# Altium footprint library RAMBo.PcbLib: 56 footprints (part 3 of 4)
Each footprint in its own frame and in the unit in brackets; x right, y up, seen from the top. Pads: shape width x height; smd on the part's side, far side on the other; paste and mask are expansions set on the pad; w line width, h text height; cw(c..) or ccw(c..) is an arc to the next point about the centre after c.
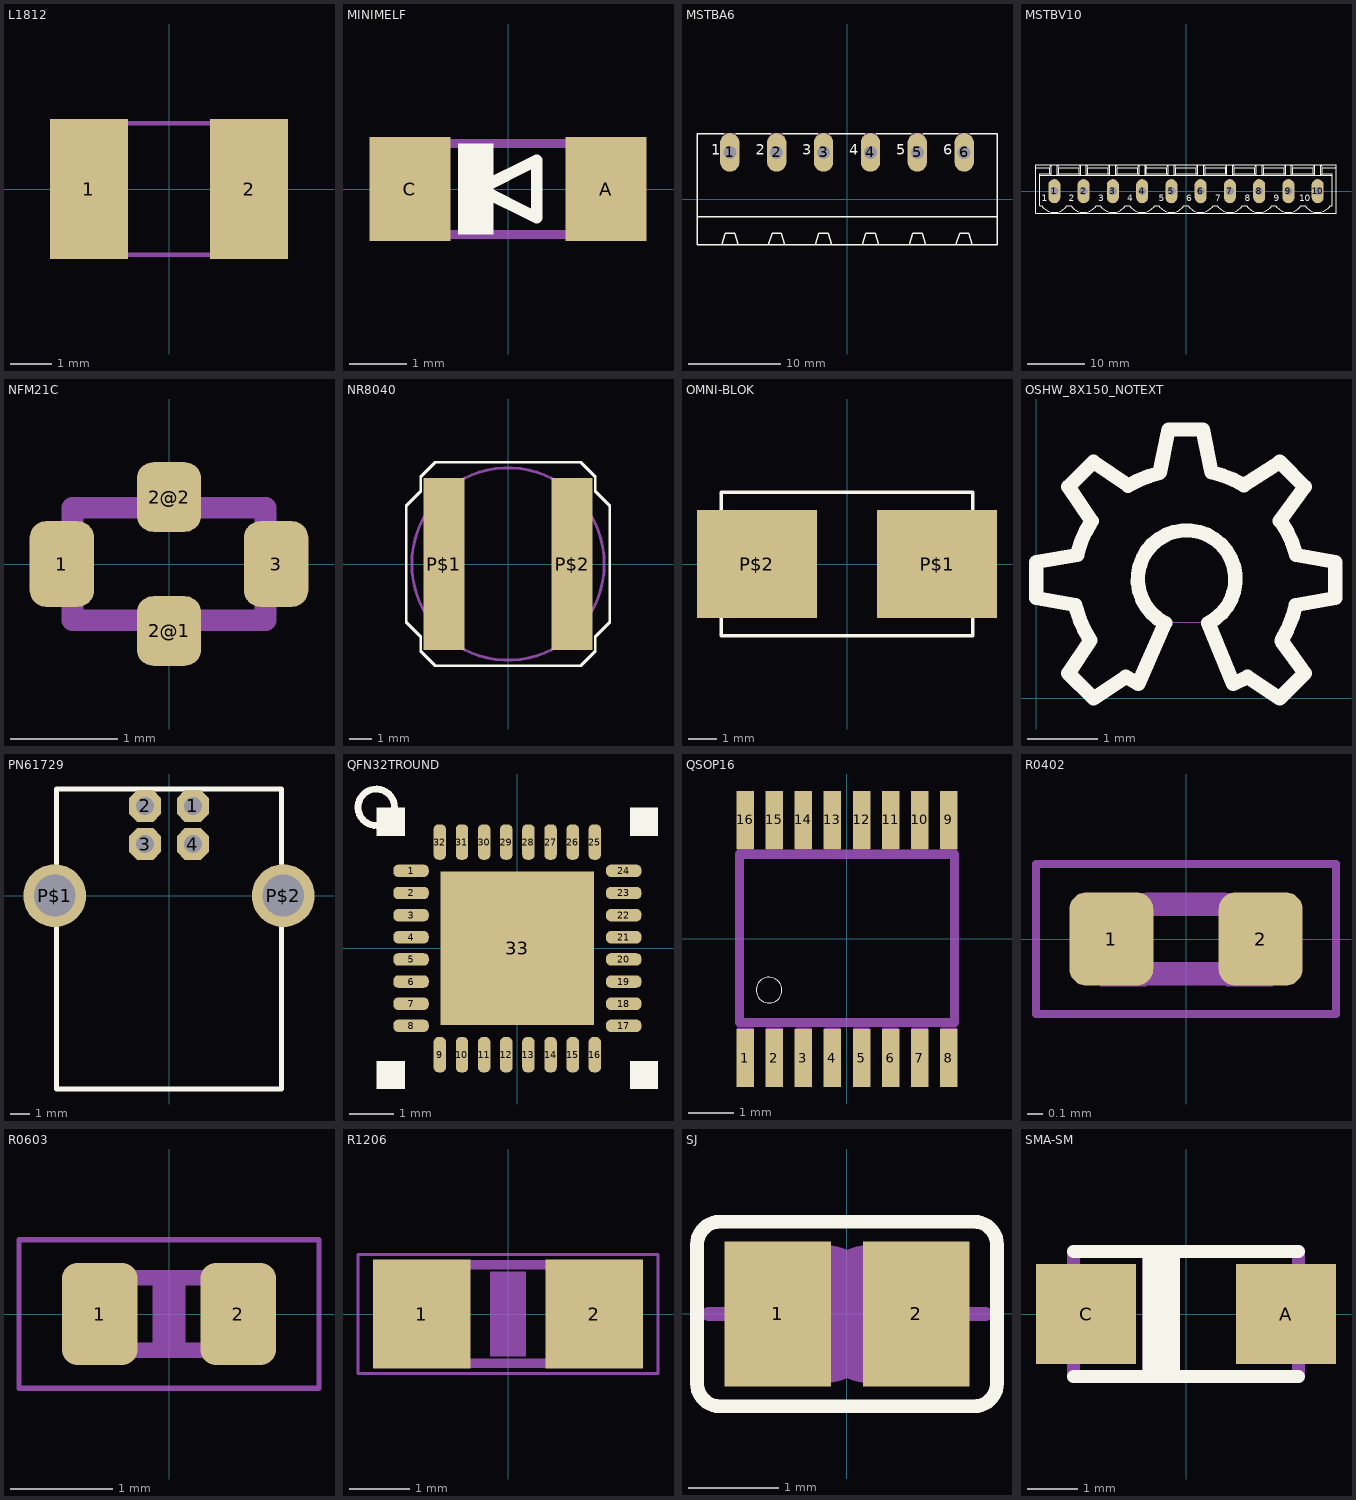
[diagram p2: the footprints below, top view; thin cyan lines are the x and y axes]

## L1812 [mil] "L1812"
pads (2):
  rect 74.8x133.86 smd: 1(-76.77,0) 2(76.77,0)
Mechanical 16:
  rectangle: 57,-65 94.4,64.92
  rectangle: -94,-65 -56.6,64.92
  lines w4: -58,63 58,63 ; -57,-63 58,-63

## MINIMELF [mil] "MINIMELF"
pads (2):
  rect 55.12x70.87 smd: A(66.93,0) C(-66.93,0)
Top Overlay:
  rectangle: -34,-31 -10,31
  lines w8: -19.69,0 19.69,-19.69 19.69,19.69 -19.69,0
Mechanical 16:
  rectangle: 51,-34 73,34
  rectangle: -73,-34 -51,34
  lines w6: -52,-31 52,-31 ; -52,31 52,31

## MSTBA6 [mil] "MSTBA6"
pads (6):
  oval 82.5x165 / inner round 82.5 / far side oval 82.5x165 hole 55: 1(-500,200) 2(-300,200) 3(-100,200) 4(100,200) 5(300,200) 6(500,200)
Top Overlay:
  lines w6: -525,280 -640,280 -640,-75 ; -475,280 -325,280 ; -275,280 -125,280 ; -75,280 75,280 ; 125,280 275,280 ; 325,280 475,280 ; 525,280 640,280 640,-75 ; -640,-75 -640,-195 -535,-195 ; -640,-75 640,-75 ; -535,-195 -465,-195 ; -535,-195 -520,-145 -480,-145 -465,-195 ; -465,-195 -335,-195 ; -335,-195 -265,-195 ; -335,-195 -320,-145 -280,-145 -265,-195 ; -265,-195 -135,-195 ; -135,-195 -120,-145 -80,-145 -65,-195 ; -135,-195 -65,-195 ; -65,-195 65,-195 ; 65,-195 80,-145 120,-145 135,-195 ; 65,-195 135,-195 ; 135,-195 265,-195 ; 265,-195 280,-145 320,-145 335,-195 ; 265,-195 335,-195 ; 335,-195 465,-195 ; 465,-195 480,-145 520,-145 535,-195 ; 465,-195 535,-195 ; 535,-195 640,-195 640,-75
  text "6" at 410,175 h77.5
  text "5" at 210,175 h77.5
  text "4" at 10,175 h77.5
  text "3" at -190,175 h77.5
  text "2" at -390,175 h77.5
  text "1" at -580,175 h77.5
Mechanical 16:
  lines w6: -525,280 -475,280 ; -325,280 -275,280 ; -125,280 -75,280 ; 75,280 125,280 ; 275,280 325,280 ; 475,280 525,280

## MSTBV10 [mil] "MSTBV10"
pads (10):
  oval 82.5x165 / inner round 82.5 / far side oval 82.5x165 hole 55: 1(-900,0) 2(-700,0) 3(-500,0) 4(-300,0) 5(-100,0) 6(100,0) 7(300,0) 8(500,0) 9(700,0) 10(900,0)
Top Overlay:
  drawing of 184 lines, arcs and shapes, not listed
  text "10" at 775,-85 h77.5
  text "9" at 600,-85 h77.5
  text "8" at 400,-85 h77.5
  text "7" at 200,-85 h77.5
  text "6" at 0,-85 h77.5
  text "5" at -185,-85 h77.5
  text "4" at -400,-85 h77.5
  text "3" at -600,-85 h77.5
  text "2" at -800,-85 h77.5
  text "1" at -985,-85 h77.5
Mechanical 16:
  lines w6: -925,-25 -875,25 ; -925,-25 -875,-25 ; -925,-25 -925,25 ; -925,25 -875,-25 ; -925,25 -875,25 ; -875,-25 -875,25 ; -725,-25 -675,25 ; -725,-25 -725,25 ; -725,-25 -675,-25 ; -725,25 -675,-25 ; -725,25 -675,25 ; -675,-25 -675,25 ; -525,-25 -475,25 ; -525,-25 -475,-25 ; -525,-25 -525,25 ; -525,25 -475,-25 ; -525,25 -475,25 ; -475,-25 -475,25 ; -325,-25 -275,-25 ; -325,-25 -275,25 ; -325,-25 -325,25 ; -325,25 -275,-25 ; -325,25 -275,25 ; -275,-25 -275,25 ; -125,-25 -75,25 ; -125,-25 -75,-25 ; -125,-25 -125,25 ; -125,25 -75,-25 ; -125,25 -75,25 ; -75,-25 -75,25 ; 75,-25 125,25 ; 75,-25 75,25 ; 75,-25 125,-25 ; 75,25 125,-25 ; 75,25 125,25 ; 125,-25 125,25 ; 275,-25 325,25 ; 275,-25 325,-25 ; 275,-25 275,25 ; 275,25 325,-25 ; 275,25 325,25 ; 325,-25 325,25 ; 475,-25 525,-25 ; 475,-25 525,25 ; 475,-25 475,25 ; 475,25 525,-25 ; 475,25 525,25 ; 525,-25 525,25 ; 675,-25 725,25 ; 675,-25 725,-25 ; 675,-25 675,25 ; 675,25 725,-25 ; 675,25 725,25 ; 725,-25 725,25 ; 875,-25 925,25 ; 875,-25 925,-25 ; 875,-25 875,25 ; 875,25 925,-25 ; 875,25 925,25 ; 925,-25 925,25

## NFM21C [mm] "NFM21C"
pads (4):
  rrect50% 0.6x0.8 smd paste-0.025 mask+0.05: 1(-1,0) 3(1,0)
  rrect50% 0.6x0.65 smd paste-0.025 mask+0.05: 2@1(0,-0.625) 2@2(0,0.625)
Mechanical 16:
  lines w0.203: -0.9,-0.525 0.9,-0.525 0.9,0.525 -0.9,0.525 -0.9,-0.525

## NR8040 [mil] "NR8040"
pads (2):
  rect 70.87x295.28 smd: P$1(-110.24,0) P$2(110.24,0)
Top Overlay:
  lines w5: -175,-100 -150,-125 -150,-150 -125,-175 125,-175 150,-150 150,-125 175,-100 175,100 150,125 150,150 125,175 -125,175 -150,150 -150,125 -175,100 -175,-100
Mechanical 16:
  circle w5: c0,0 r165.35

## OMNI-BLOK [mil] "OMNI-BLOK"
pads (2):
  rect 166.93x150 smd: P$1(125.39,0) P$2(-125.39,0)
Top Overlay:
  lines w5: -175,-75 -175,-100 ; -175,75 -175,100 ; 175,-75 175,-100 ; 175,75 175,100 ; -175,-100 175,-100 ; -175,-100 -175,100 ; -175,-100 175,-100 ; -175,100 175,100 ; -175,100 175,100 ; 175,-100 175,100

## OSHW_8X150_NOTEXT [mil] "OSHW_8X150_NOTEXT"
Top Overlay:
  lines w8: 22,52 0,56 0,76 23,80 ; 22.26,50.4 ccw(c81.62,66.1) 30.24,32.48 ; 22.82,80.22 cw(c83.72,65) 30.94,98.98 ; 30,32 18,14 32,0 50,12 57,8 72,42 cw(c84,66.5) 96,42 110,8 118,12 136,0 150,14 137,32 ; 31,99 18,118 32,132 51,119 ; 51.24,118.58 cw(c83.23,64.9) 68.88,125.72 ; 69,126 74,150 93,150 98,126 ; 98,126.14 cw(c84.15,65.31) 115.92,119 ; 116,119 136,132 150,118 136,99 ; 136.5,98.84 cw(c87.01,64.55) 145.18,80.08 ; 136.92,32.2 ccw(c83.71,65.1) 144.9,52.08 ; 145,52 167,56 167,76 145,80
Mechanical 16:
  drawing of 3249 lines, arcs and shapes, not listed
Mechanical 67:
  text "/home/buglabs/Downloads/oshw_temp.bmp" at 0,-0.7 h0.24

## PN61729 [mil] "PN61729"
pads (6):
  oct 66x66 hole 37.4: 1(49.21,185.43) 2(-49.21,185.43) 3(-49.21,106.69) 4(49.21,106.69)
  round 129.91 hole 86.61: P$1(-236.22,0) P$2(236.22,0)
Top Overlay:
  lines w10: -232.28,-399.61 232.28,-399.61 232.28,220.47 -232.28,220.47 -232.28,-399.61

## QFN32TROUND [mil] "QFN32TROUND"
pads (33):
  rrect80% 31.5x11.02 smd: 1(-94.49,68.9) 2(-94.49,49.21) 3(-94.49,29.53) 4(-94.49,9.84) 5(-94.49,-9.84) 6(-94.49,-29.53) 7(-94.49,-49.21) 8(-94.49,-68.9) 17(94.49,-68.9) 18(94.49,-49.21) 19(94.49,-29.53) 20(94.49,-9.84) 21(94.49,9.84) 22(94.49,29.53) 23(94.49,49.21) 24(94.49,68.9)
  rrect80% 11.02x31.5 smd: 9(-68.9,-94.49) 10(-49.21,-94.49) 11(-29.53,-94.49) 12(-9.84,-94.49) 13(9.84,-94.49) 14(29.53,-94.49) 15(49.21,-94.49) 16(68.9,-94.49) 25(68.9,94.49) 26(49.21,94.49) 27(29.53,94.49) 28(9.84,94.49) 29(-9.84,94.49) 30(-29.53,94.49) 31(-49.21,94.49) 32(-68.9,94.49)
  rect 136.42x136.42 smd: 33(0,0)
Top Overlay:
  circle w6: c-125.39,125.39 r16.23
  rectangle: -125,-125 -100,-100
  rectangle: 100,-125 125,-100
  rectangle: 100,100 125,125
  rectangle: -125,100 -100,125
Top Solder:
  region: -114,78 -114,-78 114,-78 114,78
  region: -78,114 78,114 78,-114 -78,-114

## QSOP16 [mil] "QSOP16"
pads (16):
  rect 15x50 smd: 1(-87.5,-102.36) 2(-62.5,-102.36) 3(-37.5,-102.36) 4(-12.5,-102.36) 5(12.5,-102.36) 6(37.5,-102.36) 7(62.5,-102.36) 8(87.5,-102.36) 9(87.5,102.36) 10(62.5,102.36) 11(37.5,102.36) 12(12.5,102.36) 13(-12.5,102.36) 14(-37.5,102.36) 15(-62.5,102.36) 16(-87.5,102.36)
Top Overlay:
  circle w0: c-67,-44 r11.04
Top Solder:
  region: -81,125 -94,125 -94,79 -81,79
  region: -79,129 -96,129 -96,76 -79,76
  region: -56,125 -69,125 -69,79 -56,79
  region: -54,129 -71,129 -71,76 -54,76
  region: -31,125 -44,125 -44,79 -31,79
  region: -29,129 -46,129 -46,76 -29,76
  region: -6,125 -19,125 -19,79 -6,79
  region: -4,129 -21,129 -21,76 -4,76
  region: 19,125 6,125 6,79 19,79
  region: 21,129 4,129 4,76 21,76
  region: 44,125 31,125 31,79 44,79
  region: 46,129 29,129 29,76 46,76
  region: 69,125 56,125 56,79 69,79
  region: 71,129 54,129 54,76 71,76
  region: 94,125 81,125 81,79 94,79
  region: 96,129 79,129 79,76 96,76
  rectangle: 81,-125 94,-79
  rectangle: 79,-129 96,-76
  rectangle: 56,-125 69,-79
  rectangle: 54,-129 71,-76
  rectangle: 31,-125 44,-79
  rectangle: 29,-129 46,-76
  rectangle: 6,-125 19,-79
  rectangle: 4,-129 21,-76
  rectangle: -19,-125 -6,-79
  rectangle: -21,-129 -4,-76
  rectangle: -44,-125 -31,-79
  rectangle: -46,-129 -29,-76
  rectangle: -69,-125 -56,-79
  rectangle: -71,-129 -54,-76
  rectangle: -94,-125 -81,-79
  rectangle: -96,-129 -79,-76
Mechanical 16:
  region: -80.5,122.05 -94.5,122.05 -94.5,76 -80.5,76
  region: -55.5,122.05 -69.5,122.05 -69.5,76 -55.5,76
  region: -30.5,122.05 -44.5,122.05 -44.5,76 -30.5,76
  region: -5.5,122.05 -19.5,122.05 -19.5,76 -5.5,76
  region: 19.5,122.05 5.5,122.05 5.5,76 19.5,76
  region: 44.5,122.05 30.5,122.05 30.5,76 44.5,76
  region: 69.5,122.05 55.5,122.05 55.5,76 69.5,76
  region: 94.5,122.05 80.5,122.05 80.5,76 94.5,76
  rectangle: 80.5,-122.05 94.5,-76
  rectangle: 55.5,-122.05 69.5,-76
  rectangle: 30.5,-122.05 44.5,-76
  rectangle: 5.5,-122.05 19.5,-76
  rectangle: -19.5,-122.05 -5.5,-76
  rectangle: -44.5,-122.05 -30.5,-76
  rectangle: -69.5,-122.05 -55.5,-76
  rectangle: -94.5,-122.05 -80.5,-76
  lines w8: -92.49,-71.8 -92.49,72.8 92.49,72.8 92.49,-55.12 92.51,-71.8 -92.49,-71.8

## R0402 [mm] "R0402"
pads (2):
  rrect40% 0.54x0.6 smd: 1(-0.48,0) 2(0.48,0)
Mechanical 16:
  rectangle: 0.259,-0.305 0.559,0.295
  rectangle: -0.554,-0.305 -0.254,0.295
  lines w0.051: -0.965,-0.483 -0.965,0.483 0.965,0.483 0.965,-0.483 -0.965,-0.483
  lines w0.152: -0.245,-0.224 0.245,-0.224 ; -0.245,0.224 0.245,0.224

## R0603 [mm] "R0603"
pads (2):
  rrect40% 0.74x1 smd: 1(-0.68,0) 2(0.68,0)
Mechanical 6:
  rectangle: -0.16,-0.4 0.16,0.4
Mechanical 16:
  rectangle: -0.838,-0.432 -0.432,0.432
  rectangle: 0.432,-0.432 0.838,0.432
  lines w0.051: -1.473,-0.729 -1.473,0.729 1.473,0.729 1.473,-0.729 -1.473,-0.729
  lines w0.152: -0.432,-0.356 0.432,-0.356 ; -0.432,0.356 0.432,0.356

## R1206 [mil] "R1206"
pads (2):
  rect 62.99x70.98 smd: 1(-55.98,0) 2(55.98,0)
Mechanical 6:
  rectangle: -11.81,-27.56 11.81,27.56
Mechanical 16:
  rectangle: 37.5,-34.5 66.5,34.5
  rectangle: -66.5,-34.5 -37.5,34.5
  lines w2: -97.36,-38.7 -97.36,38.7 97.36,38.7 97.36,-38.7 -97.36,-38.7
  lines w6: -38,-32 37.5,-32 ; -38,32 37.5,32

## SJ [mil] "SJ"
pads (2):
  rect 46x63 smd: 1(-30,0) 2(30,0)
Top Overlay:
  lines w6: -65,-30 ccw(c-55,-30) -55,-40 55,-40 ccw(c55,-30) 65,-30 65,30 ccw(c55,30) 55,40 -55,40 ccw(c-55,30) -65,30 -65,-30
Top Solder:
  rectangle: -12.8,-34.45 16.73,34.45
Mechanical 16:
  lines w6: -60,0 -40,0 ; 40,0 60,0
  lines w50: -10,-5 cw(c-10,0) -10,5 ; 10,-5 ccw(c10,0) 10,5

## SMA-SM [mm] "SMA-SM"
pads (2):
  rect 2x2 smd: A(2,0) C(-2,0)
Top Overlay:
  rectangle: -0.865,-1.115 -0.115,1.115
  lines w0.254: -2.25,-1.25 2.25,-1.25 ; -2.25,1.25 2.25,1.25
Mechanical 16:
  rectangle: -0.865,-1.115 -0.115,1.115
  rectangle: -2.8,-0.8 -2.38,0.8
  rectangle: 2.38,-0.825 2.8,0.8
  lines w0.254: -2.25,-1.25 -2.25,1.25 ; 2.25,-1.25 2.25,1.25